# EAGLE library part MBT3904 (library TRANSISTORS)
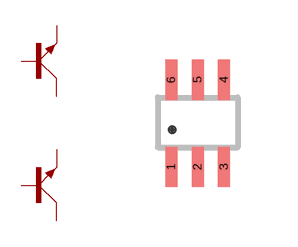
[diagram p0: symbol with the pads of SOT−363; footprint SOT−363]

Designator prefix VT1; gates G$1=NPN0 G$2=NPN0

## MBT3904SOT-363  [SOT−363]
1  G$1:E  out
2  G$1:B  in
3  G$1:C  in
4  G$2:E  out
5  G$2:B  in
6  G$2:C  in

## Footprint SOT−363 (pad centres in mm)
smd 0.3 x 1: 1 -0.66,-1.09; 2 0,-1.09; 3 0.66,-1.09; 4 0.66,1.09; 5 0,1.09; 6 -0.66,1.09